# EAGLE library part LTC2983 (library BaseApp)
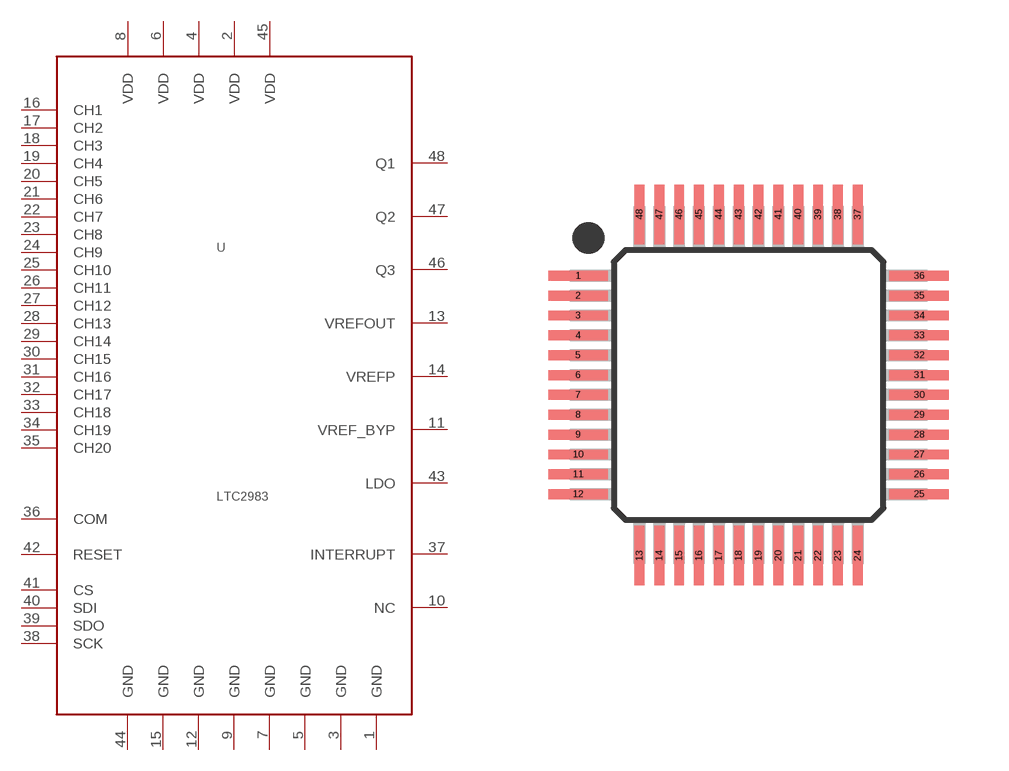
[diagram p136: symbol with the pads of LQFP48; footprint LQFP48]

Designator prefix -

## LTC2983  [LQFP48]
1  GND
2  VDD
3  GND
4  VDD
5  GND
6  VDD
7  GND
8  VDD
9  GND
10  NC
11  VREF_BYP
12  GND
13  VREFOUT
14  VREFP
15  GND
16  CH1
17  CH2
18  CH3
19  CH4
20  CH5
21  CH6
22  CH7
23  CH8
24  CH9
25  CH10
26  CH11
27  CH12
28  CH13
29  CH14
30  CH15
31  CH16
32  CH17
33  CH18
34  CH19
35  CH20
36  COM
37  INTERRUPT
38  SCK
39  SDO
40  SDI
41  CS
42  RESET
43  LDO
44  GND
45  VDD
46  Q3
47  Q2
48  Q1

## Footprint LQFP48 (pad centres in mm)
smd 1.5 x 0.25: 1 -4.3,2.75; 2 -4.3,2.25; 3 -4.3,1.75; 4 -4.3,1.25; 5 -4.3,0.75; 6 -4.3,0.25; 7 -4.3,-0.25; 8 -4.3,-0.75; 9 -4.3,-1.25; 10 -4.3,-1.75; 11 -4.3,-2.25; 12 -4.3,-2.75; 25 4.3,-2.75; 26 4.3,-2.25; 27 4.3,-1.75; 28 4.3,-1.25; 29 4.3,-0.75; 30 4.3,-0.25; 31 4.3,0.25; 32 4.3,0.75; 33 4.3,1.25; 34 4.3,1.75; 35 4.3,2.25; 36 4.3,2.75
smd 0.25 x 1.5: 13 -2.75,-4.3; 14 -2.25,-4.3; 15 -1.75,-4.3; 16 -1.25,-4.3; 17 -0.75,-4.3; 18 -0.25,-4.3; 19 0.25,-4.3; 20 0.75,-4.3; 21 1.25,-4.3; 22 1.75,-4.3; 23 2.25,-4.3; 24 2.75,-4.3; 37 2.75,4.3; 38 2.25,4.3; 39 1.75,4.3; 40 1.25,4.3; 41 0.75,4.3; 42 0.25,4.3; 43 -0.25,4.3; 44 -0.75,4.3; 45 -1.25,4.3; 46 -1.75,4.3; 47 -2.25,4.3; 48 -2.75,4.3